# EAGLE library part ICSP (library _openSX70)
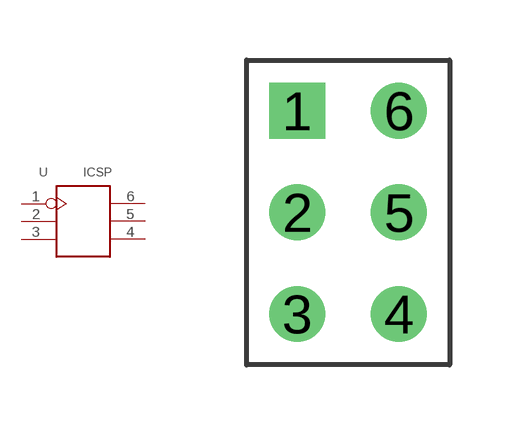
[diagram p26: symbol with the pads of H2X3-2.54; footprint H2X3-2.54]

Designator prefix -

## ICSP  [H2X3-2.54]
1  MISO
2  SCK
3  RST
4  GND
5  MOSI
6  VCC

## Footprint H2X3-2.54 (pad centres in mm)
drill 0.635 pad 1.397 square: 1 -1.27,2.54
drill 0.635 pad 1.397: 2 -1.27,0; 3 -1.27,-2.54; 4 1.27,-2.54; 5 1.27,0; 6 1.27,2.54